# Altium schematic symbol library Clocks.SchLib: 3 symbols
Pins are listed as number, name and electrical type; pins without a type are passive.

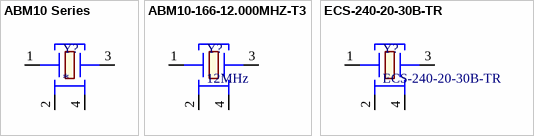
[diagram p0: symbols ABM10 Series to ECS-240-20-30B-TR]

## ABM10 Series
designator Y?
SMD Abracon Crystal ABM?
footprint ABM10 Series Crystal (Abracon ABM10 Series Crystal)
pins: 1, 2 (power), 3, 4 (power)

## ABM10-166-12.000MHZ-T3
designator Y?, comment 12MHz
SMD Abracon Crystal 12.00MHz 8pF Low ESR; CL: 8pF; Frequency: 12MHz; Supplier 1: Digi-Key; Supplier Part Number 1: 535-13520-1-ND
footprint ABM10 Series Crystal (Abracon ABM10 Series Crystal)
pins: 1, 2 (power), 3, 4 (power)

## ECS-240-20-30B-TR
designator Y?
ECS 24MHz Crystal ECS-240-20-30B-TR; Supplier 1: Digi-Key; Supplier Part Number 1: XC1122CT-ND
footprint ECX-53B-DU Series SMD Crystal
pins: 1, 2 (power), 3, 4 (power)